# Altium footprint library UBC Formula Electric.PcbLib: 35 footprints (part 1 of 3)
Each footprint in its own frame and in the unit in brackets; x right, y up, seen from the top. Pads: shape width x height; smd on the part's side, far side on the other; paste and mask are expansions set on the pad; w line width, h text height; cw(c..) or ccw(c..) is an arc to the next point about the centre after c.
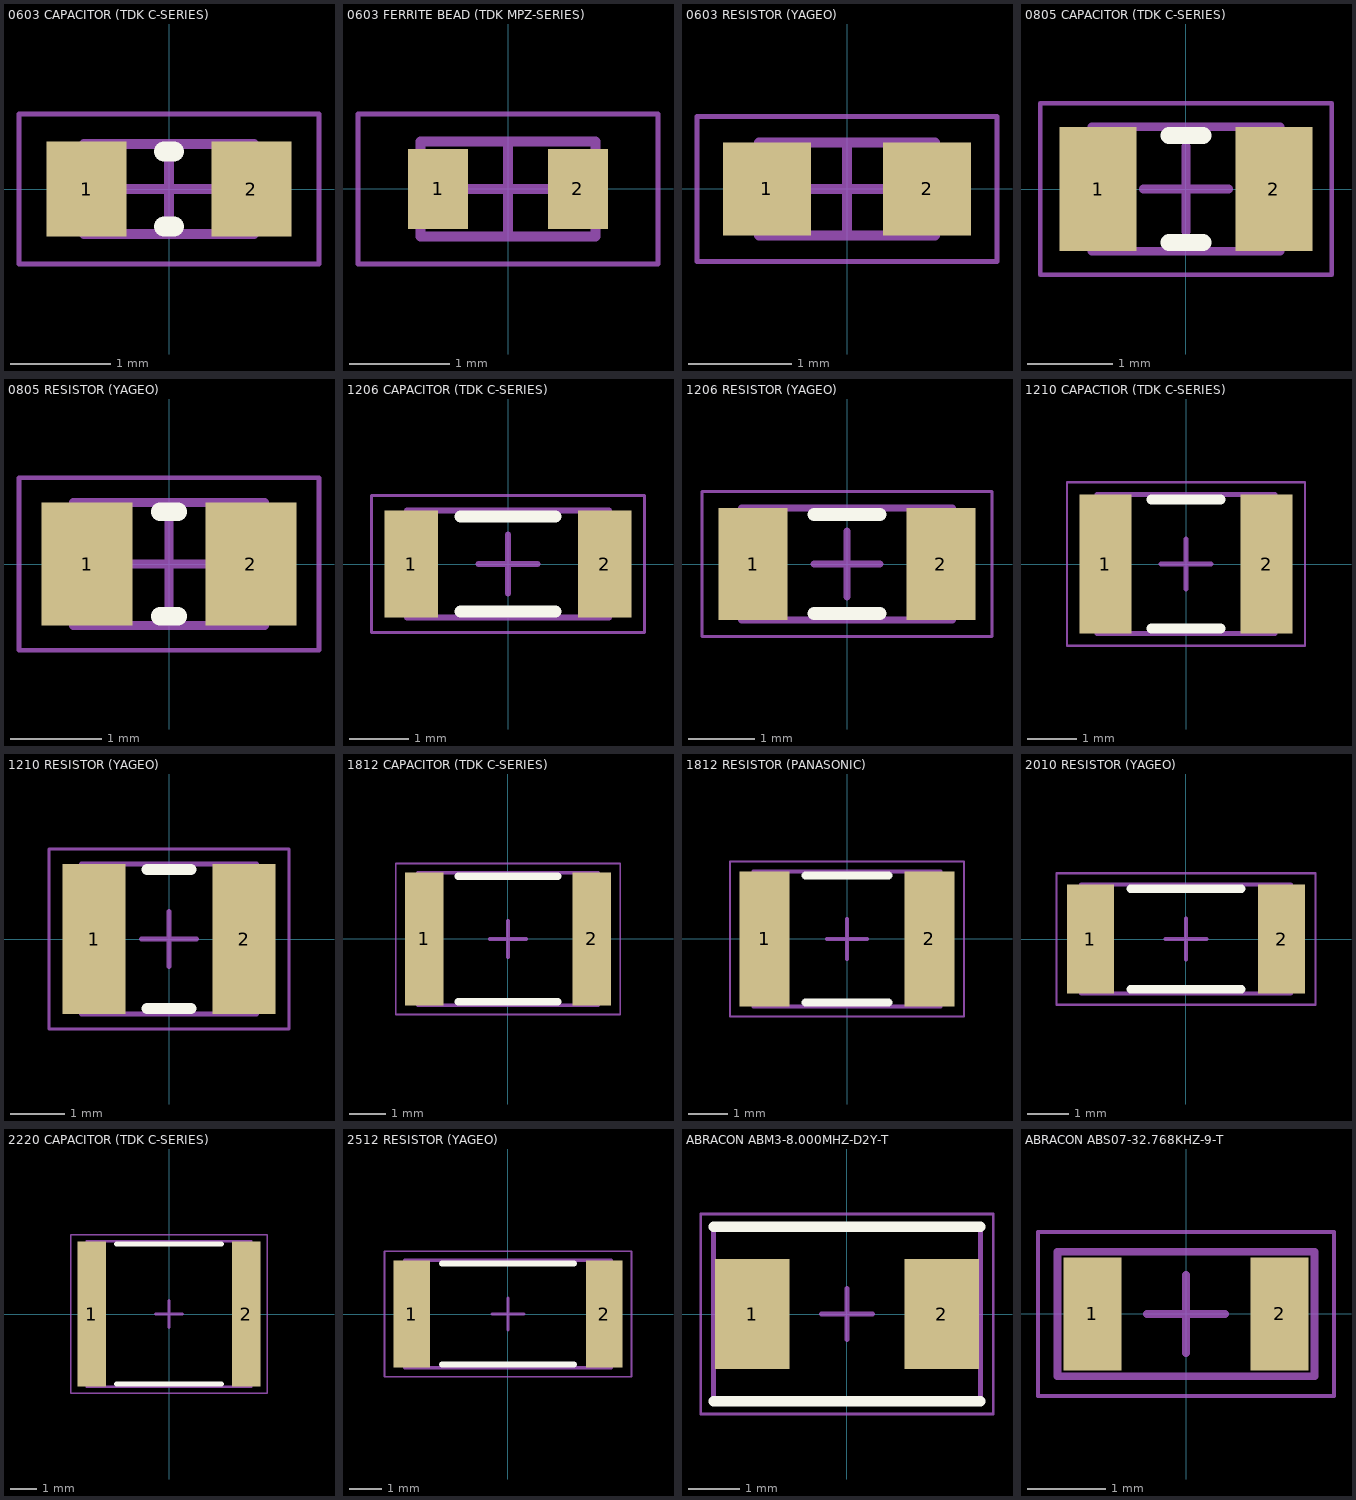
[diagram p0: the footprints below, top view; thin cyan lines are the x and y axes]

## 0603 CAPACITOR (TDK C-SERIES) [mm] "Chip Capacitor, 2-Leads, Body 1.60x0.80mm, IPC Medium Density"
height 0.9
pads (2):
  rect 0.8x0.95 smd: 1(-0.825,0) 2(0.825,0)
Top Overlay:
  lines w0.2: -0.05,-0.375 0.05,-0.375 ; -0.05,0.375 0.05,0.375
Mechanical 13:
  lines w0.1: -0.85,-0.45 -0.85,0.45 0.85,0.45 0.85,-0.45 -0.85,-0.45
Mechanical 15:
  lines w0.05: -1.5,-0.75 -1.5,0.75 1.5,0.75 1.5,-0.75 -1.5,-0.75
  lines w0.1: -0.45,0 0.45,0 ; 0,-0.45 0,0.45
3D body "0603 CAPACITOR (TDK C-SERIES).step": height 0.9, standoff 0, extent -0.85,-0.45 0.85,0.45

## 0603 FERRITE BEAD (TDK MPZ-SERIES) [mm] "FERRITE BEAD 1 KOHM (0603)"
height 0.95
pads (2):
  rect 0.6x0.8 smd: 1(-0.7,0) 2(0.7,0)
Mechanical 13:
  lines w0.1: -0.875,-0.475 -0.875,0.475 0.875,0.475 0.875,-0.475 -0.875,-0.475
Mechanical 15:
  lines w0.05: -1.5,-0.75 -1.5,0.75 1.5,0.75 1.5,-0.75 -1.5,-0.75
  lines w0.1: -0.475,0 0.475,0 ; 0,-0.475 0,0.475
3D body "User Library-FB_1608.STEP": height 0.8, standoff 0, extent -0.8,-0.4 0.8,0.4

## 0603 RESISTOR (YAGEO) [mm] "Chip Resistor, 2-Leads, Body 1.60x0.80mm, IPC Medium Density"
height 0.55
pads (2):
  rect 0.85x0.9 smd: 1(-0.775,0) 2(0.775,0)
Mechanical 13:
  lines w0.1: -0.85,-0.45 0.85,-0.45 0.85,0.45 -0.85,0.45 -0.85,-0.45
Mechanical 15:
  lines w0.05: -1.45,-0.7 1.45,-0.7 1.45,0.7 -1.45,0.7 -1.45,-0.7
  lines w0.1: -0.45,0 0.45,0 ; 0,-0.45 0,0.45
3D body "0603 RESISTOR (YAGEO).step": height 0.55, standoff 0, extent -0.85,-0.45 0.85,0.45

## 0805 CAPACITOR (TDK C-SERIES) [mm] "Chip Capacitor, 2-Leads, Body 2.00x1.25mm, IPC Medium Density"
height 1.45
pads (2):
  rect 0.9x1.45 smd: 1(-1.025,0) 2(1.025,0)
Top Overlay:
  lines w0.2: -0.2,-0.625 0.2,-0.625 ; -0.2,0.625 0.2,0.625
Mechanical 13:
  lines w0.1: -1.1,-0.725 1.1,-0.725 1.1,0.725 -1.1,0.725 -1.1,-0.725
Mechanical 15:
  lines w0.05: -1.7,-1 1.7,-1 1.7,1 -1.7,1 -1.7,-1
  lines w0.1: -0.5,0 0.5,0 ; 0,-0.5 0,0.5
3D body "0805 CAPACITOR (TDK C-SERIES).step": height 1.45, standoff 0, extent -1.1,-0.725 1.1,0.725

## 0805 RESISTOR (YAGEO) [mm] "Chip Resistor, 2-Leads, Body 2.00x1.25mm, IPC Medium Density"
height 0.6
pads (2):
  rect 1x1.35 smd: 1(-0.9,0) 2(0.9,0)
Top Overlay:
  lines w0.2: -0.1,-0.575 0.1,-0.575 ; -0.1,0.575 0.1,0.575
Mechanical 13:
  lines w0.1: -1.05,-0.675 1.05,-0.675 1.05,0.675 -1.05,0.675 -1.05,-0.675
Mechanical 15:
  lines w0.05: -1.65,-0.95 1.65,-0.95 1.65,0.95 -1.65,0.95 -1.65,-0.95
  lines w0.1: -0.5,0 0.5,0 ; 0,-0.5 0,0.5
3D body "0805 RESISTOR (YAGEO).step": height 0.6, standoff 0, extent -1.05,-0.675 1.05,0.675

## 1206 CAPACITOR (TDK C-SERIES) [mm] "Chip Capacitor, 2-Leads, Body 3.20x1.60mm, IPC Medium Density"
height 1.8
pads (2):
  rect 0.9x1.8 smd: 1(-1.625,0) 2(1.625,0)
Top Overlay:
  lines w0.2: -0.8,-0.8 0.8,-0.8 ; -0.8,0.8 0.8,0.8
Mechanical 13:
  lines w0.1: -1.7,-0.9 -1.7,0.9 1.7,0.9 1.7,-0.9 -1.7,-0.9
Mechanical 15:
  lines w0.05: -2.3,-1.15 -2.3,1.15 2.3,1.15 2.3,-1.15 -2.3,-1.15
  lines w0.1: -0.5,0 0.5,0 ; 0,-0.5 0,0.5
3D body "1206 CAPACITOR (TDK C-SERIES).step": height 1.8, standoff 0, extent -1.7,-0.9 1.7,0.9

## 1206 RESISTOR (YAGEO) [mm] "Chip Resistor, 2-Leads, Body 3.10x1.60mm, IPC Medium Density"
height 0.65
pads (2):
  rect 1.05x1.7 smd: 1(-1.425,0) 2(1.425,0)
Top Overlay:
  lines w0.2: -0.5,-0.75 0.5,-0.75 ; -0.5,0.75 0.5,0.75
Mechanical 13:
  lines w0.1: -1.6,-0.85 1.6,-0.85 1.6,0.85 -1.6,0.85 -1.6,-0.85
Mechanical 15:
  lines w0.05: -2.2,-1.1 2.2,-1.1 2.2,1.1 -2.2,1.1 -2.2,-1.1
  lines w0.1: -0.5,0 0.5,0 ; 0,-0.5 0,0.5
3D body "1206 RESISTOR (YAGEO).step": height 0.65, standoff 0, extent -1.6,-0.85 1.6,0.85

## 1210 CAPACTIOR (TDK C-SERIES) [mm] "Chip Capacitor, 2-Leads, Body 3.20x2.50mm, IPC Medium Density"
height 2.8
pads (2):
  rect 1.05x2.8 smd: 1(-1.625,0) 2(1.625,0)
Top Overlay:
  lines w0.2: -0.7,-1.3 0.7,-1.3 ; -0.7,1.3 0.7,1.3
Mechanical 13:
  lines w0.1: -1.8,-1.4 1.8,-1.4 1.8,1.4 -1.8,1.4 -1.8,-1.4
Mechanical 15:
  lines w0.05: -2.4,-1.65 2.4,-1.65 2.4,1.65 -2.4,1.65 -2.4,-1.65
  lines w0.1: -0.5,0 0.5,0 ; 0,-0.5 0,0.5
3D body "1210 CAPACTIOR (TDK C-SERIES).step": height 2.8, standoff 0, extent -1.8,-1.4 1.8,1.4

## 1210 RESISTOR (YAGEO) [mm] "Chip Resistor, 2-Leads, Body 3.10x2.60mm, IPC Medium Density"
height 0.65
pads (2):
  rect 1.15x2.75 smd: 1(-1.375,0) 2(1.375,0)
Top Overlay:
  lines w0.2: -0.4,-1.275 0.4,-1.275 ; -0.4,1.275 0.4,1.275
Mechanical 13:
  lines w0.1: -1.6,-1.375 -1.6,1.375 1.6,1.375 1.6,-1.375 -1.6,-1.375
Mechanical 15:
  lines w0.05: -2.2,-1.65 -2.2,1.65 2.2,1.65 2.2,-1.65 -2.2,-1.65
  lines w0.1: -0.5,0 0.5,0 ; 0,-0.5 0,0.5
3D body "1210 RESISTOR (YAGEO).step": height 0.65, standoff 0, extent -1.6,-1.375 1.6,1.375

## 1812 CAPACITOR (TDK C-SERIES) [mm] "Chip Capacitor, 2-Leads, Body 4.50x3.20mm, IPC Medium Density"
height 3.6
pads (2):
  rect 1.05x3.6 smd: 1(-2.275,0) 2(2.275,0)
Top Overlay:
  lines w0.2: -1.35,-1.7 1.35,-1.7 ; -1.35,1.7 1.35,1.7
Mechanical 13:
  lines w0.1: -2.45,-1.8 2.45,-1.8 2.45,1.8 -2.45,1.8 -2.45,-1.8
Mechanical 15:
  lines w0.05: -3.05,-2.05 3.05,-2.05 3.05,2.05 -3.05,2.05 -3.05,-2.05
  lines w0.1: -0.5,0 0.5,0 ; 0,-0.5 0,0.5
3D body "1812 CAPACITOR (TDK C-SERIES).step": height 3.6, standoff 0, extent -2.45,-1.8 2.45,1.8

## 1812 RESISTOR (PANASONIC) [mm] "Chip Resistor, 2-Leads, Body 4.50x3.20mm, IPC Medium Density"
height 0.7
pads (2):
  rect 1.25x3.4 smd: 1(-2.075,0) 2(2.075,0)
Top Overlay:
  lines w0.2: -1.05,-1.6 1.05,-1.6 ; -1.05,1.6 1.05,1.6
Mechanical 13:
  lines w0.1: -2.35,-1.7 -2.35,1.7 2.35,1.7 2.35,-1.7 -2.35,-1.7
Mechanical 15:
  lines w0.05: -2.95,-1.95 -2.95,1.95 2.95,1.95 2.95,-1.95 -2.95,-1.95
  lines w0.1: -0.5,0 0.5,0 ; 0,-0.5 0,0.5
3D body "1812 RESISTOR (PANASONIC).step": height 0.7, standoff 0, extent -2.35,-1.7 2.35,1.7

## 2010 RESISTOR (YAGEO) [mm] "Chip Resistor, 2-Leads, Body 5.00x2.50mm, IPC Medium Density"
height 0.65
pads (2):
  rect 1.15x2.65 smd: 1(-2.325,0) 2(2.325,0)
Top Overlay:
  lines w0.2: -1.35,-1.225 1.35,-1.225 ; -1.35,1.225 1.35,1.225
Mechanical 13:
  lines w0.1: -2.55,-1.325 -2.55,1.325 2.55,1.325 2.55,-1.325 -2.55,-1.325
Mechanical 15:
  lines w0.05: -3.15,-1.6 -3.15,1.6 3.15,1.6 3.15,-1.6 -3.15,-1.6
  lines w0.1: -0.5,0 0.5,0 ; 0,-0.5 0,0.5
3D body "2010 RESISTOR (YAGEO).step": height 0.65, standoff 0, extent -2.55,-1.325 2.55,1.325

## 2220 CAPACITOR (TDK C-SERIES) [mm] "Chip Capacitor, 2-Leads, Body 5.70x5.00mm, IPC Medium Density"
height 3.1
pads (2):
  rect 1.05x5.4 smd: 1(-2.875,0) 2(2.875,0)
Top Overlay:
  lines w0.2: -1.95,-2.6 1.95,-2.6 ; -1.95,2.6 1.95,2.6
Mechanical 13:
  lines w0.1: -3.05,-2.7 -3.05,2.7 3.05,2.7 3.05,-2.7 -3.05,-2.7
Mechanical 15:
  lines w0.05: -3.65,-2.95 -3.65,2.95 3.65,2.95 3.65,-2.95 -3.65,-2.95
  lines w0.1: -0.5,0 0.5,0 ; 0,-0.5 0,0.5
3D body "2220 CAPACITOR (TDK C-SERIES).step": height 3.1, standoff 0, extent -3.05,-2.7 3.05,2.7

## 2512 RESISTOR (YAGEO) [mm] "Chip Resistor, 2-Leads, Body 6.35x3.20mm, IPC Medium Density"
height 0.65
pads (2):
  rect 1.15x3.35 smd: 1(-3,0) 2(3,0)
Top Overlay:
  lines w0.2: -2.05,-1.575 2.05,-1.575 ; -2.05,1.575 2.05,1.575
Mechanical 13:
  lines w0.1: -3.225,-1.675 3.225,-1.675 3.225,1.675 -3.225,1.675 -3.225,-1.675
Mechanical 15:
  lines w0.05: -3.85,-1.95 3.85,-1.95 3.85,1.95 -3.85,1.95 -3.85,-1.95
  lines w0.1: -0.5,0 0.5,0 ; 0,-0.5 0,0.5
3D body "2512 RESISTOR (YAGEO).step": height 0.65, standoff 0, extent -3.225,-1.675 3.225,1.675

## ABRACON ABM3-8.000MHZ-D2Y-T [mm] "CRYSTAL 8.0000MHZ 18PF SMD"
height 1
pads (2):
  rect 1.45x2.15 smd: 1(-1.85,0) 2(1.85,0)
Top Overlay:
  lines w0.2: -2.6,-1.7 2.6,-1.7 ; -2.6,1.7 2.6,1.7
Mechanical 13:
  lines w0.1: -2.6,-1.7 2.6,-1.7 2.6,1.7 -2.6,1.7 -2.6,-1.7
Mechanical 15:
  lines w0.05: -2.85,-1.95 2.85,-1.95 2.85,1.95 -2.85,1.95 -2.85,-1.95
  lines w0.1: -0.5,0 0.5,0 ; 0,-0.5 0,0.5
3D body "ABM3.STEP": height 1.3, standoff 0, extent -2.5,-1.6 2.5,1.6

## ABRACON ABS07-32.768KHZ-9-T [mm] "CRYSTAL 32.7680KHZ 9PF SMD"
height 1
pads (2):
  rect 0.75x1.45 smd: 1(-1.2,0) 2(1.2,0)
Mechanical 13:
  lines w0.1: -1.65,-0.8 -1.65,0.8 1.65,0.8 1.65,-0.8 -1.65,-0.8
Mechanical 15:
  lines w0.05: -1.9,-1.05 -1.9,1.05 1.9,1.05 1.9,-1.05 -1.9,-1.05
  lines w0.1: -0.5,0 0.5,0 ; 0,-0.5 0,0.5
3D body "ABS07.STEP": height 0.89, standoff 0, extent -1.6,-0.749 1.6,0.749